# EAGLE library part ISP521 (library cTechnologies_optoElements)
5.3 kV TRIOS High Reliability Optocoupler
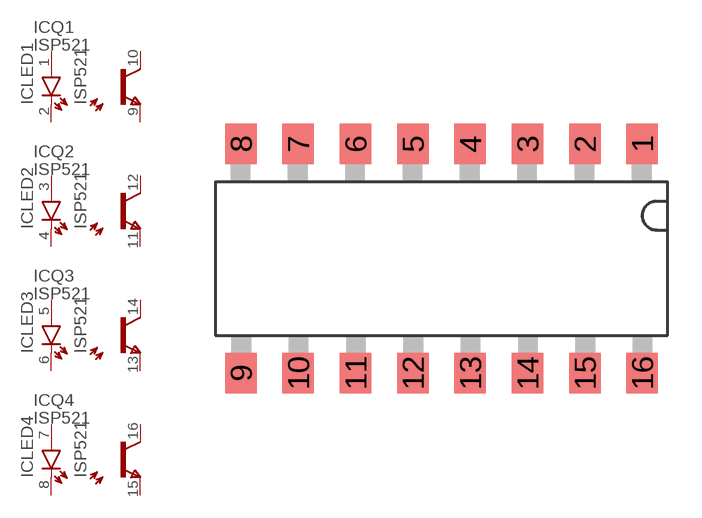
[diagram p2: symbol with the pads of SMD-DIP16; footprint SMD-DIP16]

Designator prefix IC; gates Q1=CE LED1=LED-RIGHT LED2=LED-RIGHT Q2=CE LED3=LED-RIGHT Q3=CE LED4=LED-RIGHT Q4=CE

## ISP521-4X (MF: VISHAY/TELEFUNKEN; MPN: SFH6156-4T; OC_FARNELL: 1612479; OC_NEWARK: 21H7733)  [SMD-DIP16]
1  LED1:A
2  LED1:K
3  LED2:A
4  LED2:K
5  LED3:A
6  LED3:K
7  LED4:A
8  LED4:K
9  Q1:E
10  Q1:C
11  Q2:E
12  Q2:C
13  Q3:E
14  Q3:C
15  Q4:E
16  Q4:C

## Footprint SMD-DIP16 (pad centres in mm)
SFH
smd 1.4 x 1.8: 1 8.89,5.08; 2 6.35,5.08; 3 3.81,5.08; 4 1.27,5.08; 5 -1.27,5.08; 6 -3.81,5.08; 7 -6.35,5.08; 8 -8.89,5.08; 9 -8.89,-5.08; 10 -6.35,-5.08; 11 -3.81,-5.08; 12 -1.27,-5.08; 13 1.27,-5.08; 14 3.81,-5.08; 15 6.35,-5.08; 16 8.89,-5.08